# Altium footprint library PcbLib1.PcbLib: 98 footprints (part 5 of 7)
Each footprint in its own frame and in the unit in brackets; x right, y up, seen from the top. Pads: shape width x height; smd on the part's side, far side on the other; paste and mask are expansions set on the pad; w line width, h text height; cw(c..) or ccw(c..) is an arc to the next point about the centre after c.
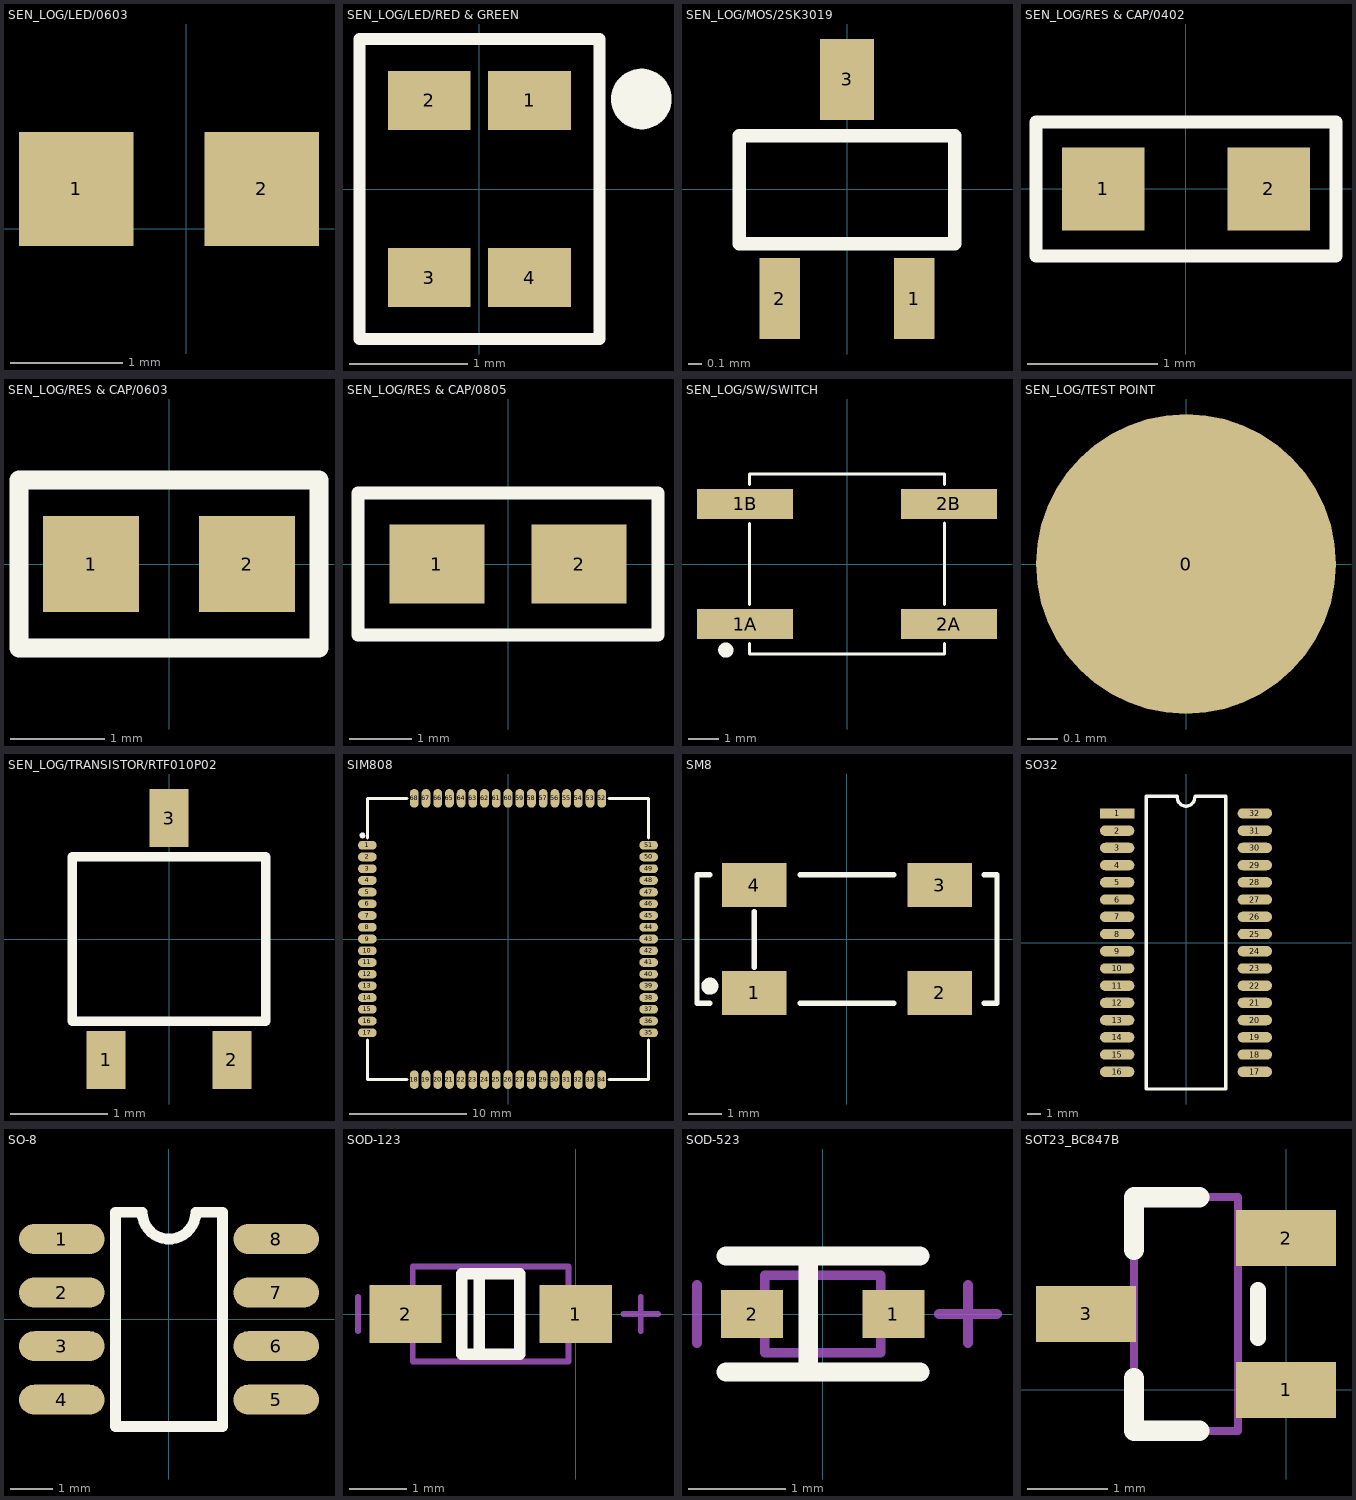
[diagram p4: the footprints below, top view; thin cyan lines are the x and y axes]

## SEN_LOG/LED/0603 [mil]
pads (2):
  rect 40x40 smd: 1(-38.5,14) 2(26.5,14)

## SEN_LOG/LED/RED & GREEN [mm]
pads (4):
  rect 0.7x0.5 smd mask+0.06: 1(0.425,0.75) 2(-0.425,0.75) 3(-0.425,-0.75) 4(0.425,-0.75)
Top Overlay:
  circle w0.254: c1.372,0.762 r0.13
  lines w0.1: -1.016,-1.27 1.016,-1.27 1.016,1.27 -1.016,1.27 -1.016,-1.27

## SEN_LOG/MOS/2SK3019 [mm]
pads (3):
  rect 0.3x0.6 smd mask+0.07: 1(0.5,-0.813) 2(-0.5,-0.813)
  rect 0.4x0.6 smd mask+0.07: 3(0,0.813)
Top Overlay:
  lines w0.1: -0.8,-0.406 0.8,-0.406 0.8,0.394 -0.8,0.394 -0.8,-0.406

## SEN_LOG/RES & CAP/0402 [mm]
pads (2):
  rect 0.635x0.635 smd: 1(-0.635,0) 2(0.635,0)
Top Overlay:
  lines w0.1: -1.15,-0.513 -1.15,0.512 1.15,0.512 1.15,-0.513 -1.15,-0.513

## SEN_LOG/RES & CAP/0603 [mil]
pads (2):
  rect 40x40 smd: 1(-32.5,0) 2(32.5,0)
Top Overlay:
  lines w8: -62.5,-35 -62.5,35 62.5,35 62.5,-35 -62.5,-35

## SEN_LOG/RES & CAP/0805 [mil]
pads (2):
  rect 60x50 smd: 1(-45,0) 2(45,0)
Top Overlay:
  lines w8: 20,45 95,45 95,-45 20,-45 -95,-45 -95,45 25,45

## SEN_LOG/SW/SWITCH [mm]
pads (4):
  rect 3.2x1 smd mask+0.07: 1A(-3.4,-2) 1B(-3.4,2) 2A(3.4,-2) 2B(3.4,2)
Top Overlay:
  circle w0.254: c-4.039,-2.87 r0.127
  lines w0.1: -3.253,-2.643 -3.253,-2.997 3.247,-2.997 3.247,-2.646 ; -3.253,2.643 -3.253,3.003 3.247,3.003 3.247,2.646 ; -3.251,-1.346 -3.251,1.344 ; 3.247,-1.346 3.247,1.367

## SEN_LOG/TEST POINT [mm]
pads (1):
  round 1 smd: 0(0,0)

## SEN_LOG/TRANSISTOR/RTF010P02 [mm]
pads (3):
  rect 0.4x0.6 smd: 1(-0.65,-1.25) 2(0.65,-1.25) 3(0,1.25)
Top Overlay:
  lines w0.1: -1,-0.85 -1,0.85 1,0.85 1,-0.85 -1,-0.85

## SIM808 [mm]
pads (68):
  oval 1.6x0.75 smd: 1(-12,8) 2(-12,7) 3(-12,6) 4(-12,5) 5(-12,4) 6(-12,3) 7(-12,2) 8(-12,1) 9(-12,0) 10(-12,-1) 11(-12,-2) 12(-12,-3) 13(-12,-4) 14(-12,-5) 15(-12,-6) 16(-12,-7) 17(-12,-8) 35(12,-8) 36(12,-7) 37(12,-6) 38(12,-5) 39(12,-4) 40(12,-3) 41(12,-2) 42(12,-1) 43(12,0) 44(12,1) 45(12,2) 46(12,3) 47(12,4) 48(12,5) 49(12,6) 50(12,7) 51(12,8)
  oval 0.75x1.6 smd: 18(-8,-12) 19(-7,-12) 20(-6,-12) 21(-5,-12) 22(-4,-12) 23(-3,-12) 24(-2,-12) 25(-1,-12) 26(0,-12) 27(1,-12) 28(2,-12) 29(3,-12) 30(4,-12) 31(5,-12) 32(6,-12) 33(7,-12) 34(8,-12) 52(8,12) 53(7,12) 54(6,12) 55(5,12) 56(4,12) 57(3,12) 58(2,12) 59(1,12) 60(0,12) 61(-1,12) 62(-2,12) 63(-3,12) 64(-4,12) 65(-5,12) 66(-6,12) 67(-7,12) 68(-8,12)
Top Overlay:
  lines w0.25: -12.344,8.941 ccw(c-12.417,8.839) -12.292,8.839
  lines w0.254: -12,-8.636 -12,-12 -8.636,-12 ; -12,8.636 -12,12 -8.636,12 ; 8.636,-12 12,-12 12,-8.636 ; 8.636,12 12,12 12,8.636
3D body: height 3, standoff 0, extent -11.949,-12.076 12.051,11.924

## SM8 [mm]
pads (4):
  rect 1.9x1.3 smd: 1(-2.75,-1.6) 2(2.75,-1.6) 3(2.75,1.6) 4(-2.75,1.6)
Top Overlay:
  circle w0.254: c-4.064,-1.397 r0.127
  lines w0.152: -4.064,-1.905 -4.445,-1.905 -4.445,1.905 -4.064,1.905 ; -2.75,-0.838 -2.75,0.813 ; -1.397,-1.905 1.397,-1.905 ; -1.397,1.905 1.397,1.905 ; 4.064,-1.905 4.445,-1.905 4.445,-1.651 4.445,1.651 4.445,1.905 4.064,1.905

## SO32 [mil]
pads (32):
  rect 100x30 smd: 1(-200,375)
  oval 100x30 smd: 2(-200,325) 3(-200,275) 4(-200,225) 5(-200,175) 6(-200,125) 7(-200,75) 8(-200,25) 9(-200,-25) 10(-200,-75) 11(-200,-125) 12(-200,-175) 13(-200,-225) 14(-200,-275) 15(-200,-325) 16(-200,-375) 17(200,-375) 18(200,-325) 19(200,-275) 20(200,-225) 21(200,-175) 22(200,-125) 23(200,-75) 24(200,-25) 25(200,25) 26(200,75) 27(200,125) 28(200,175) 29(200,225) 30(200,275) 31(200,325) 32(200,375)
Top Overlay:
  lines w10: -116,-425 115,-425 115,425 27,425 ; -116,425 -26,425 ; -115,-425 -115,425 ; -25,421 ccw(c0,421) 25,421

## SO-8 [mil]
pads (8):
  oval 80x28 smd: 1(-100,75) 2(-100,25) 3(-100,-25) 4(-100,-75) 5(100,-75) 6(100,-25) 7(100,25) 8(100,75)
Top Overlay:
  lines w10: -28,100 -50,100 -50,-100 50,-100 50,100 25,100 cw(c0,100) -25,100

## SOD-123 [mm]
pads (2):
  rect 1.25x1 smd: 1(0,0) 2(-2.95,0)
Top Overlay:
  lines w0.2: -1.675,-0.7 -1.675,0.7 ; -1.975,-0.7 -1.975,0.7 -0.975,0.7 -0.975,-0.7 -1.975,-0.7
Mechanical 13:
  lines w0.1: -2.825,-0.825 -0.125,-0.825 -0.125,0.825 -2.825,0.825 -2.825,-0.825
Mechanical 15:
  lines w0.1: -3.775,-0.3 -3.775,0.3 ; 0.825,0 1.425,0 ; 1.125,-0.3 1.125,0.3
3D body: height 1.35, standoff 0, extent -3.325,-0.775 0.375,0.775

## SOD-523 [mm]
pads (2):
  rect 0.64x0.5 smd: 1(0.73,0) 2(-0.73,0)
Top Overlay:
  lines w0.2: -1,-0.6 1,-0.6 ; -1,0.6 1,0.6 ; -0.15,-0.575 -0.15,0.6
Mechanical 13:
  lines w0.1: -0.6,-0.4 -0.6,0.4 0.6,0.4 0.6,-0.4 -0.6,-0.4
Mechanical 15:
  lines w0.1: -1.3,-0.3 -1.3,0.3 ; 1.2,0 1.8,0 ; 1.5,-0.3 1.5,0.3
3D body: height 0.7, standoff 0, extent -0.8,-0.399 0.8,0.399

## SOT23_BC847B [mm]
pads (3):
  rect 1.25x0.7 smd: 1(0,0) 2(0,1.9) 3(-2.5,0.95)
Top Overlay:
  lines w0.2: -0.35,0.65 -0.35,1.25
  lines w0.254: -1.9,0.15 -1.9,-0.51 -1.085,-0.51 ; -1.085,2.41 -1.9,2.41 ; -1.9,1.75 -1.9,2.41 ; -1.9,1.75 -1.9,2.41 ; -1.9,1.75 -1.9,2.41
Mechanical 13:
  lines w0.1: -1.9,-0.51 -1.9,2.41 ; -1.9,-0.51 -0.6,-0.51 ; -1.9,-0.51 -0.6,-0.51 ; -1.9,-0.51 -1.9,2.41 ; -1.9,-0.51 -0.6,-0.51 ; -1.9,-0.51 -1.9,2.41 ; -1.9,2.41 -0.6,2.41 ; -1.9,2.41 -0.6,2.41 ; -1.9,2.41 -0.6,2.41 ; -0.6,-0.51 -0.6,2.41 ; -0.6,-0.51 -0.6,2.41 ; -0.6,-0.51 -0.6,2.41
3D body: height 1.3, standoff 0, extent -2.75,-0.55 0.25,2.45